# EAGLE library part A4491 (library ICs)
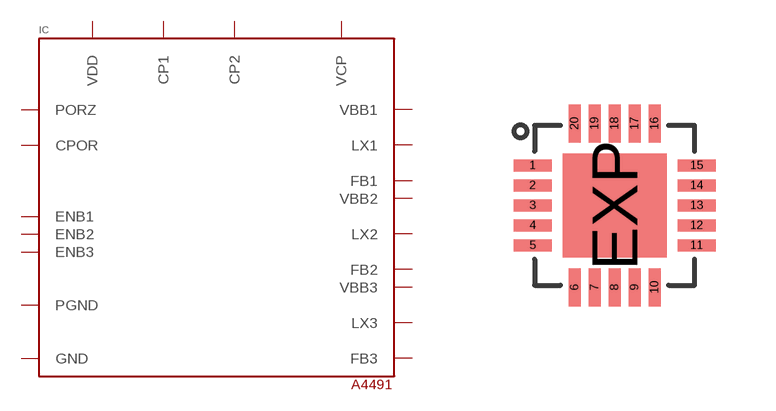
[diagram p4: symbol with the pads of 20PIN-QFN; footprint 20PIN-QFN]

Designator prefix IC

## A4491 (MN: ALLEGRO; MN_CODE: A4491EESTR-T; ORDER: DIGIKEY; ORDER_CODE: 620-1516-2-ND)  [20PIN-QFN]
1  FB1
2  VDD
3  GND
4  FB2
5  ENB2
6  LX2
7  VBB2
8  CPOR
9  PORZ
10  VCP
11  CP2
12  CP1
13  PGND
14  FB3
15  ENB3
16  LX3
17  VBB3
18  VBB1
19  LX1
20  ENB1
EXP  GND

## Footprint 20PIN-QFN (pad centres in mm)
smd 0.95 x 0.3: 1 -2.05,1; 2 -2.05,0.5; 3 -2.05,0; 4 -2.05,-0.5; 5 -2.05,-1; 11 2.05,-1; 12 2.05,-0.5; 13 2.05,0; 14 2.05,0.5; 15 2.05,1
smd 0.3 x 0.95: 6 -1,-2.05; 7 -0.5,-2.05; 8 0,-2.05; 9 0.5,-2.05; 10 1,-2.05; 16 1,2.05; 17 0.5,2.05; 18 0,2.05; 19 -0.5,2.05; 20 -1,2.05
smd 2.6 x 2.6: EXP 0,0